# Altium footprint library FPGA Interface Board.PcbLib: 23 footprints (part 1 of 2)
Each footprint in its own frame and in the unit in brackets; x right, y up, seen from the top. Pads: shape width x height; smd on the part's side, far side on the other; paste and mask are expansions set on the pad; w line width, h text height; cw(c..) or ccw(c..) is an arc to the next point about the centre after c.
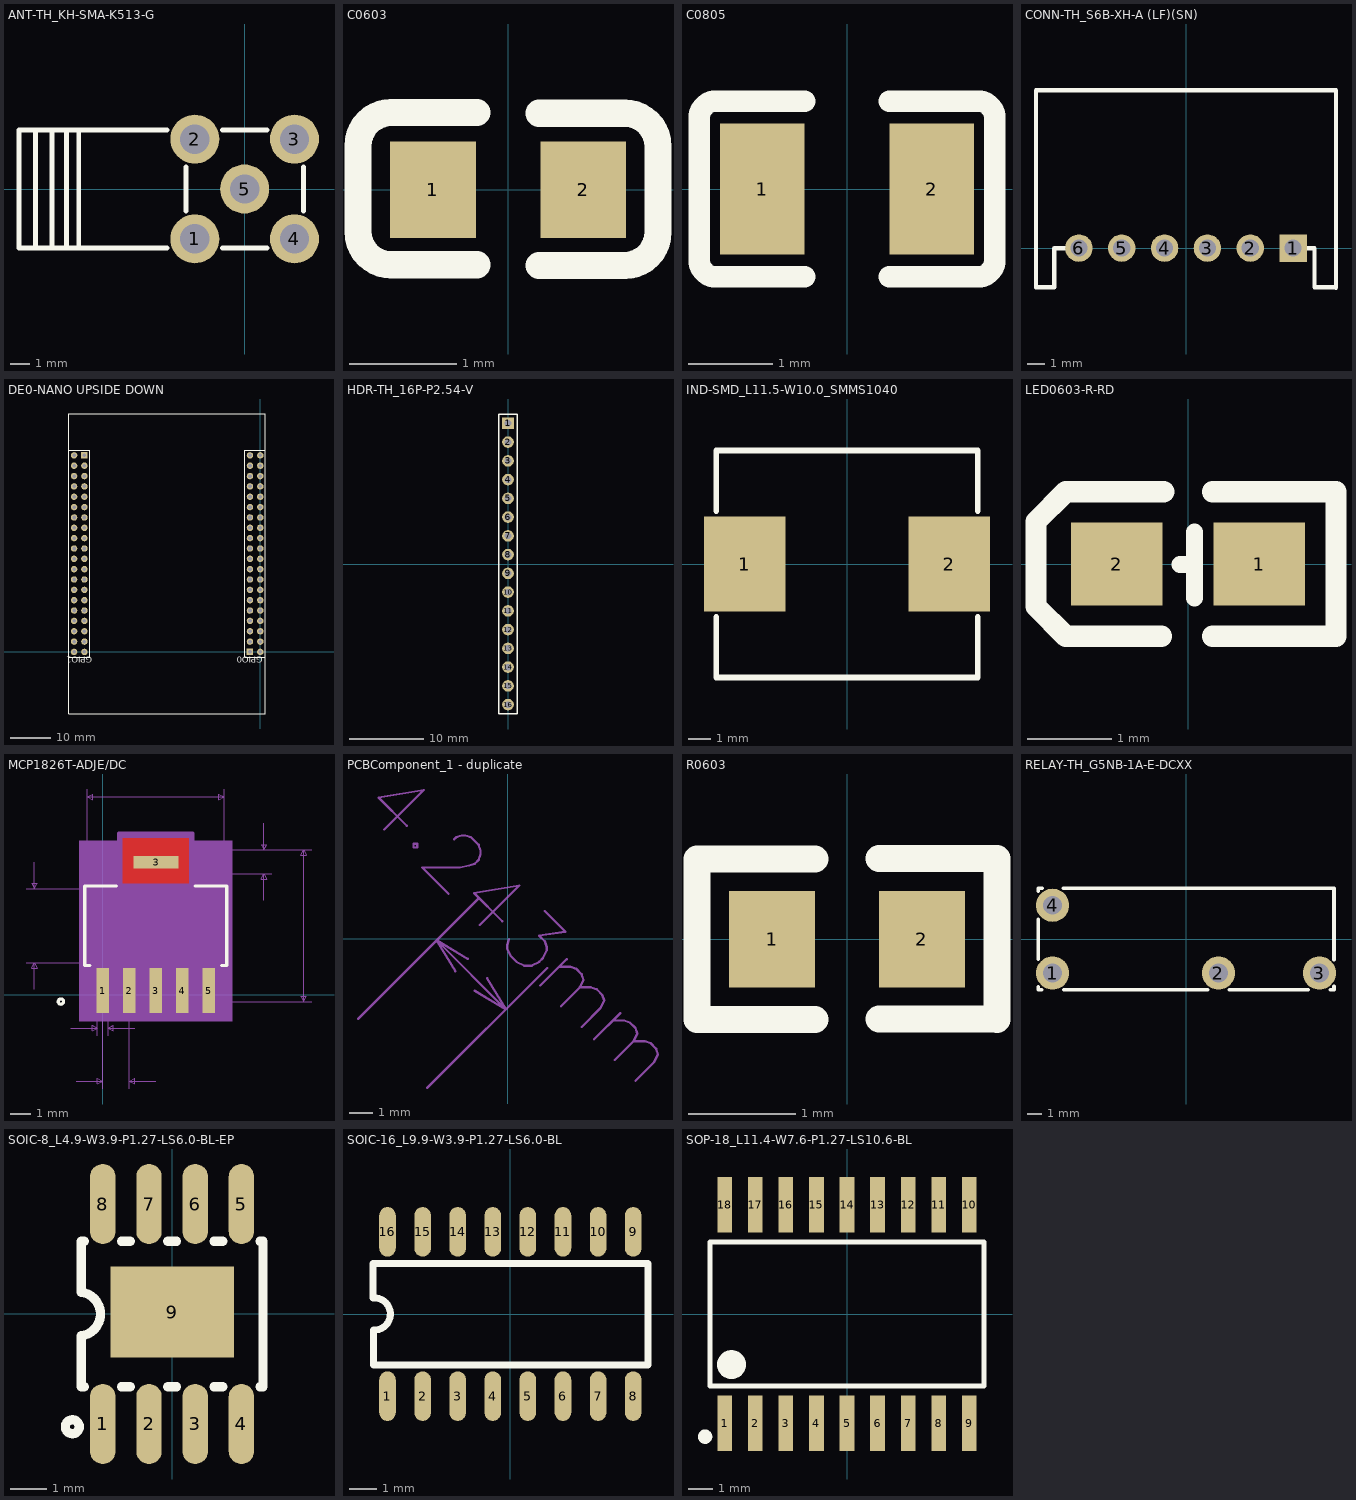
[diagram p0: the footprints below, top view; thin cyan lines are the x and y axes]

## ANT-TH_KH-SMA-K513-G [mm]
pads (5):
  round 2.5 hole 1.5: 1(-2.54,-2.54) 2(-2.54,2.54) 3(2.54,2.54) 4(2.54,-2.54) 5(0,0)
Top Overlay:
  lines w0.254: -10.668,-3 -10.668,3 ; -9.966,3 -9.573,3 ; -9.827,-3 -9.827,3 ; -9.09,-3 -9.09,3 ; -8.595,3 -8.176,3 ; -8.455,-3 -8.455,3 ; -3.948,-3 -11.5,-3 -11.5,3 -3.948,3 ; -3,-1.132 -3,1.132 ; -1.132,-3 1.132,-3 ; -1.132,3 1.132,3 ; 3,-1.132 3,1.132
3D body "SMA-J-P-H-RA-TH1--3DModel-STEP-56544.STEP": height 9.86, standoff -3.94, extent -11.59,-3.48 3.51,3.52

## C0603 [mm]
pads (2):
  rect 0.8x0.9 smd: 1(-0.7,0) 2(0.7,0)
Top Overlay:
  lines w0.254: -0.289,-0.698 -1.089,-0.698 cw(c-1.089,-0.388) -1.399,-0.388 -1.398,0.412 cw(c-1.089,0.412) -1.089,0.722 -0.289,0.722 ; 0.287,-0.704 1.087,-0.704 ccw(c1.087,-0.394) 1.397,-0.394 1.397,0.406 ccw(c1.087,0.406) 1.087,0.716 0.287,0.716
3D body "C_0603_1608Metric.step": height 0.8, standoff 0, extent -0.8,-0.4 0.8,0.4

## C0805 [mm]
pads (2):
  rect 1x1.55 smd: 1(-1,0) 2(1,0)
Top Overlay:
  lines w0.254: -1.75,0.82 -1.75,0.8 ; -0.5,-1.04 -1.55,-1.04 cw(c-1.55,-0.84) -1.75,-0.84 -1.75,-0.8 -1.75,0.8 ; -0.5,1.04 -1.55,1.04 ccw(c-1.55,0.84) -1.75,0.84 -1.75,0.8 ; 0.5,-1.04 1.55,-1.04 ccw(c1.55,-0.84) 1.75,-0.84 1.75,-0.8 1.75,0.8 1.75,0.84 ccw(c1.55,0.84) 1.55,1.04 0.5,1.04
3D body "C_0805_2012Metric.step": height 1.25, standoff 0, extent -1,-0.64 1,0.61

## CONN-TH_S6B-XH-A (LF)(SN) [mm]
pads (6):
  rect 1.6x1.6 hole 1: 1(6.25,0)
  round 1.6 hole 1: 2(3.75,0) 3(1.25,0) 4(-1.25,0) 5(-3.75,0) 6(-6.25,0)
Top Overlay:
  lines w0.254: -8.75,-2.3 -8.75,9.2 8.75,9.2 8.75,-2.301 ; -8.75,-2.286 -7.68,-2.286 -7.68,0 -6.283,0 ; 6.223,0 7.493,0 7.493,-2.286 8.75,-2.286
3D body "S6B-XH-A.STEP": height 6.15, standoff -3.4, extent -8.7,-2.33 8.7,9.17

## DE0-NANO UPSIDE DOWN [mil]
pads (80):
  rect 62x62 hole 35: 01(-100,0) 11(-1700,1900)
  round 62 hole 35: 02(0,0) 03(-100,100) 04(0,100) 05(-100,200) 06(0,200) 07(-100,300) 08(0,300) 09(-100,400) 010(0,400) 011(-100,500) 12(-1800,1900) 012(0,500) 13(-1700,1800) 013(-100,600) 14(-1800,1800) 014(0,600) 15(-1700,1700) 015(-100,700) 16(-1800,1700) 016(0,700) 17(-1700,1600) 017(-100,800) 18(-1800,1600) 018(0,800) 19(-1700,1500) 019(-100,900) 020(0,900) 021(-100,1000) 022(0,1000) 023(-100,1100) 024(0,1100) 025(-100,1200) 026(0,1200) 027(-100,1300) 028(0,1300) 029(-100,1400) 030(0,1400) 031(-100,1500) 032(0,1500) 033(-100,1600) 034(0,1600) 035(-100,1700) 036(0,1700) 037(-100,1800) 038(0,1800) 039(-100,1900) 040(0,1900) 110(-1800,1500) 111(-1700,1400) 112(-1800,1400) 113(-1700,1300) 114(-1800,1300) 115(-1700,1200) 116(-1800,1200) 117(-1700,1100) 118(-1800,1100) 119(-1700,1000) 120(-1800,1000) 121(-1700,900) 122(-1800,900) 123(-1700,800) 124(-1800,800) 125(-1700,700) 126(-1800,700) 127(-1700,600) 128(-1800,600) 129(-1700,500) 130(-1800,500) 131(-1700,400) 132(-1800,400) 133(-1700,300) 134(-1800,300) 135(-1700,200) 136(-1800,200) 137(-1700,100) 138(-1800,100) 139(-1700,0) 140(-1800,0)
Top Overlay:
  lines w8: -1850,-50 -1650,-50 -1650,1950 -1850,1950 -1850,-50 ; -150,-50 50,-50 50,1950 -150,1950 -150,-50
  lines w10: -1850,-600 50,-600 50,2300 -1850,2300 -1850,-600
  text "GPIO0" at 25,-45 h60
  text "GPIO1" at -1625,-45 h60
3D body "PinSocket_2x20_P2.54mm_Vertical.step": height 275.59, standoff -122.05, extent -1849.99,-49.99 -1649.99,1950.01
3D body "PinSocket_2x20_P2.54mm_Vertical.step": height 275.59, standoff -122.05, extent -150,-49.99 50,1950.01

## HDR-TH_16P-P2.54-V [mil]
pads (16):
  rect 62x62 hole 35: 1(0,750)
  round 62 hole 35: 2(0,650) 3(0,550) 4(0,450) 5(0,350) 6(0,250) 7(0,150) 8(0,50) 9(0,-50) 10(0,-150) 11(0,-250) 12(0,-350) 13(0,-450) 14(0,-550) 15(0,-650) 16(0,-750)
Top Overlay:
  lines w7.99: 50,-800 50,725
  lines w8: 50,-800 -50,-800 -50,800 50,800 50,725
3D body "PinSocket_1x16_P2.54mm_Vertical.step": height 102.36, standoff -295.28, extent -49.99,-799.99 50.01,800.01

## IND-SMD_L11.5-W10.0_SMMS1040 [mm]
pads (2):
  rect 3.6x4.2 smd: 1(-4.5,0) 2(4.5,0)
Top Overlay:
  lines w0.254: -5.75,-2.331 -5.75,-5 5.75,-5 5.75,-2.331 ; -5.75,2.331 -5.75,5 5.75,5 5.75,2.331
3D body "INDP115100X40M.step": height 4.1, standoff 0, extent -5.85,-5 5.85,5
3D body: height 5, standoff -5, extent 0.28,-0.42 0.28,-0.42

## LED0603-R-RD [mil]
pads (2):
  rect 43x39 smd: 1(33.5,0) 2(-33.5,0)
Top Overlay:
  lines w7.99: -3.9,-0.31 3,-0.31 ; 3,-16 3,15
  lines w10: -12.5,-34 -57.5,-34 -71.5,-20 -71.5,20 -57.5,34 -11.5,34 ; 11.5,-34 69.5,-34 69.5,34 11.5,34
3D body "LED 0603 Lens GREEN.STEP": height 20.87, standoff 7.09, extent -21.65,-15.74 21.66,15.75
3D body "LED 0603 Base GREEN.STEP": height 11.02, standoff 0, extent -31.49,-15.74 31.5,15.75

## MCP1826T-ADJE/DC [mil] "Adjustable 6V 0.8V ~ 5V 400mV @ 1A SOT-223-6 Dropout Regulators(LDO) RoHS"
pads (6):
  rect 24x85 smd paste+0 mask+0: 1(-0.35,7.9) 2(49.65,7.9) 3(99.65,7.9) 4(149.65,7.9) 5(199.65,7.9)
  rect 85x24 smd paste+0 mask+0: 3(100.37,250.04)
Top Layer:
  region: 161.65,210.23 161.65,295.23 37.65,295.23 37.65,210.23
Top Overlay:
  circle w6: c-79.29,-12.6 r5
  lines w6: -24.45,55.43 -34.29,55.43 -34.29,205.2 25.55,205.2 ; 173.74,205.2 233.58,205.2 233.58,55.43 223.74,55.43
Top Paste:
  region: 161.65,210.23 161.65,295.23 37.65,295.23 37.65,210.23
Top Solder:
  region: 163.65,192.23 163.65,317.23 35.65,317.23 35.65,192.23
Mechanical 5:
  region: -44.29,290.23 243.58,290.23 243.58,-49.6 -44.29,-49.6
Mechanical 7:
  lines w1: -144.29,60.43 99.65,60.43 ; -144.29,200.2 99.65,200.2 ; -129.29,10.43 -129.29,60.43 ; -129.29,250.2 -129.29,200.2 ; -60.35,-62.6 -10.35,-62.6 ; -50.35,-162.6 -0.35,-162.6 ; -29.29,200.2 -29.29,388.23 ; -10.35,-77.6 -10.35,-12.6 ; -0.35,-177.6 -0.35,-12.6 ; 9.65,-77.6 9.65,-12.6 ; 49.65,-177.6 49.65,-12.6 ; 59.65,-62.6 9.65,-62.6 ; 99.65,-162.6 49.65,-162.6 ; 99.65,-12.6 393.58,-12.6 ; 99.65,228.23 318.58,228.23 ; 228.58,200.2 228.58,388.23 ; 303.58,178.23 303.58,228.23 ; 303.58,323.23 303.58,273.23 ; 318.58,273.23 99.65,273.23 393.58,273.23 ; -129.29,60.43 -134.29,50.43 -124.29,50.43 -129.29,60.43 ; -129.29,200.2 -134.29,210.2 -124.29,210.2 -129.29,200.2 ; -29.29,373.23 228.58,373.23 ; -29.29,373.23 -19.29,378.23 -19.29,368.23 -29.29,373.23 ; -10.35,-62.6 -20.35,-57.6 -20.35,-67.6 -10.35,-62.6 ; -0.35,-162.6 -10.35,-157.6 -10.35,-167.6 -0.35,-162.6 ; 9.65,-62.6 19.65,-57.6 19.65,-67.6 9.65,-62.6 ; 49.65,-162.6 59.65,-157.6 59.65,-167.6 49.65,-162.6 ; 228.58,373.23 218.58,378.23 218.58,368.23 228.58,373.23 ; 303.58,228.23 298.58,218.23 308.58,218.23 303.58,228.23 ; 303.58,273.23 298.58,283.23 308.58,283.23 303.58,273.23 ; 378.58,-12.6 378.58,273.23 ; 378.58,-12.6 373.58,-2.6 383.58,-2.6 378.58,-12.6 ; 378.58,273.23 373.58,263.23 383.58,263.23 378.58,273.23
  text "Default Pin Padstyle: RX24Y85D0T" at -300.35,-334.6 h50
  text "Alt 1 Padstyle: OX60Y90D30P" at -237.85,-384.6 h50
  text "Alt 2 Padstyle: OX90Y60D30P" at -237.85,-434.6 h50
  text "0.286in/7.26mm" at 398.58,117.81 h25
  text "0.045in/1.143mm" at 323.58,238.23 h25
  text "0.05in/1.27mm" at -56.6,-207.6 h25
  text "0.02in/0.508mm" at -87.85,-107.6 h25
  text "0.258in/6.55mm" at 12.15,393.23 h25
  text "0.14in/3.55mm" at -311.79,117.81 h25
Mechanical 13:
  circle w0: c-19.29,70.43 r5
  lines w1: -29.29,60.43 228.58,60.43 228.58,200.2 -29.29,200.2 -29.29,60.43 ; -10.35,-12.6 -10.35,60.43 9.65,60.43 9.65,-12.6 -10.35,-12.6 ; 39.65,-12.6 39.65,60.43 59.65,60.43 59.65,-12.6 39.65,-12.6 ; 39.65,200.2 159.65,200.2 159.65,273.23 39.65,273.23 39.65,200.2 ; 89.65,-12.6 89.65,60.43 109.65,60.43 109.65,-12.6 89.65,-12.6 ; 139.65,-12.6 139.65,60.43 159.65,60.43 159.65,-12.6 139.65,-12.6 ; 189.65,-12.6 189.65,60.43 209.65,60.43 209.65,-12.6 189.65,-12.6
Mechanical 15:
  region: -39.29,50.43 -39.29,210.2 29.65,210.2 29.65,305.23 169.65,305.23 169.65,210.2 238.58,210.2 238.58,50.43 219.65,50.43 219.65,-44.6 -20.35,-44.6 -20.35,50.43
  lines w6: -39.29,50.43 -39.29,210.2 29.65,210.2 29.65,305.23 169.65,305.23 169.65,210.2 238.58,210.2 238.58,50.43 219.65,50.43 219.65,-44.6 -20.35,-44.6 -20.35,50.43 -39.29,50.43
3D body "SOT-223_5MC_MCH.step": height 70.98, standoff 0, extent -29.29,-12.59 228.59,273.23
3D body: height 10, standoff 0, extent 99.65,130.31 109.65,140.31

## PCBComponent_1 [mil]

## PCBComponent_1 - duplicate [mil]
Mechanical 15:
  lines w4: -256.35,-136.65 -51.15,68.55 ; -211.61,187.23 -144.09,254.76 -221.3,241.89 -173.08,193.66 ; -138.24,-254.76 66.96,-49.56 ; -101.73,77.34 -146.7,122.31 -82.35,122.31 -66.3,125.5 -56.69,128.75 -50.25,135.18 -47,144.8 -47.07,151.23 -50.25,160.92 -63.12,173.79 -72.81,176.97 -79.17,176.97 -88.79,173.72 -92.04,170.47 ; -90.04,-55.19 -121.86,-2.16 ; -68.83,-33.98 -121.86,-2.16 ; -56.79,-88.45 -3.75,-120.27 ; -48.34,23.96 19.19,91.48 -58.03,78.61 -9.81,30.39 ; -35.57,-67.24 -3.75,-120.27 ; 1.79,-0.44 -1.39,-10.13 -1.46,-16.56 5.04,-29.43 14.66,-39.05 27.46,-45.48 40.33,-45.48 53.27,-39.05 59.7,-32.61 66.07,-19.74 66.07,-13.38 62.88,-3.69 53.2,6 98.24,12.43 62.88,47.79 ; 55.18,-79.56 100.15,-34.59 ; 87.35,-47.39 106.58,-47.39 116.2,-50.64 125.82,-60.26 129.07,-69.88 122.71,-82.75 ; 90.53,-114.92 122.71,-82.75 ; 125.89,-150.28 158.06,-118.1 164.43,-105.23 161.17,-95.62 151.56,-86 141.94,-82.75 122.71,-82.75 ; 147.1,-171.49 192.07,-126.52 ; 179.27,-139.32 198.51,-139.32 208.12,-142.57 217.74,-152.18 220.99,-161.8 214.63,-174.67 ; 182.46,-206.84 214.63,-174.67 ; 217.81,-242.2 249.99,-210.03 256.35,-197.16 253.1,-187.54 243.48,-177.92 233.86,-174.67 214.63,-174.67 ; -121.86,-2.16 -3.75,-120.27 ; -161.48,156.33 -155.05,156.4 -155.05,162.76 -161.48,162.83 -161.48,156.33

## R0603 [mm]
pads (2):
  rect 0.8x0.9 smd: 1(-0.7,0) 2(0.7,0)
Top Overlay:
  lines w0.254: -1.401,-0.75 -0.3,-0.75 ; -1.401,0.75 -0.3,0.75 ; -1.4,-0.75 -1.4,0.75 ; 0.301,-0.745 1.401,-0.745 ; 0.301,0.755 1.401,0.755 ; 1.401,-0.75 1.401,0.75
3D body "User Library-RES_1609-0603.step": height 0.56, standoff 0, extent -0.85,-0.4 0.85,0.4

## RELAY-TH_G5NB-1A-E-DCXX [mm]
pads (4):
  round 2.3 hole 1.3: 1(-9.249,-2.349) 2(2.252,-2.349) 3(9.249,-2.349) 4(-9.249,2.349)
Top Overlay:
  lines w0.254: -10.234,-3.317 -10.234,-3.498 -10.014,-3.498 ; -10.234,-1.382 -10.234,1.382 ; -10.234,3.317 -10.234,3.522 -9.978,3.522 ; -8.521,3.522 10.266,3.522 10.266,-1.416 ; -8.485,-3.498 1.487,-3.498 ; 3.016,-3.498 8.485,-3.498 ; 10.014,-3.498 10.266,-3.498 10.266,-3.283
3D body "G5NB_1A_E.step": height 15.3, standoff -3.4, extent -10.287,-3.6 10.213,3.6

## SOIC-8_L4.9-W3.9-P1.27-LS6.0-BL-EP [mm]
pads (9):
  oval 0.7x2.2 smd: 1(-1.905,-3.023) 2(-0.635,-3.023) 3(0.635,-3.023) 4(1.905,-3.023) 5(1.905,3.023) 6(0.635,3.023) 7(-0.635,3.023) 8(-1.905,3.023)
  rect 3.4x2.5 smd: 9(0,0.051)
Top Overlay:
  circle w0.254: c-2.743,-3.099 r0.191
  lines w0.254: -2.418,-2 -2.5,-2 -2.5,-0.6 ccw(c-2.572,0) -2.499,0.599 -2.5,2 -2.418,2 ; -1.392,-2 -1.148,-2 ; -1.392,2 -1.148,2 ; -0.122,-2 0.122,-2 ; -0.122,2 0.122,2 ; 1.148,-2 1.392,-2 ; 1.148,2 1.392,2 ; 2.418,-2 2.5,-2 2.5,2 2.418,2
3D body "SO-8.step": height 1.88, standoff -0.03, extent -2.5,-3.169 2.504,3.169

## SOIC-16_L9.9-W3.9-P1.27-LS6.0-BL [mil]
pads (16):
  oval 23.62x70.79 smd: 1(-175,-117) 2(-125,-117) 3(-75,-117) 4(-25,-117) 5(25,-117) 6(75,-117) 7(125,-117) 8(175,-117) 9(175,117) 10(125,117) 11(75,117) 12(25,117) 13(-25,117) 14(-75,117) 15(-125,117) 16(-175,117)
Top Overlay:
  lines w10: -195.9,23 -195.9,72 195.9,72 195.9,-73 -194,-73 ; -195,-73 -195,-23 ccw(c-194,0) -194.89,23
3D body "SOIC_16.step": height 55.12, standoff 0, extent -194.89,-118.11 194.88,118.11

## SOP-18_L11.4-W7.6-P1.27-LS10.6-BL [mil]
pads (18):
  rect 24x91 smd: 1(-200,-179) 2(-150,-179) 3(-100,-179) 4(-50,-179) 5(0,-179) 6(50,-179) 7(100,-179) 8(150,-179) 9(200,-179) 10(200,179) 11(150,179) 12(100,179) 13(50,179) 14(0,179) 15(-50,179) 16(-100,179) 17(-150,179) 18(-200,179)
Top Overlay:
  lines w7.9: -224.4,-118.1 -224.4,118.1 224.4,118.1 224.4,-118.1 -224.4,-118.1
  lines w11.8: -226.4,-200.9 cw(c-232.3,-200.85) -226.4,-200.8
  lines w23.6: -177.2,-82.9 cw(c-189,-82.8) -177.2,-82.7
3D body "SOIC-18-300.STEP": height 101.38, standoff -0.98, extent -231.3,-208.67 231.3,208.66